# EAGLE library part GENERIC_BOARD_EDGE (library S-100)
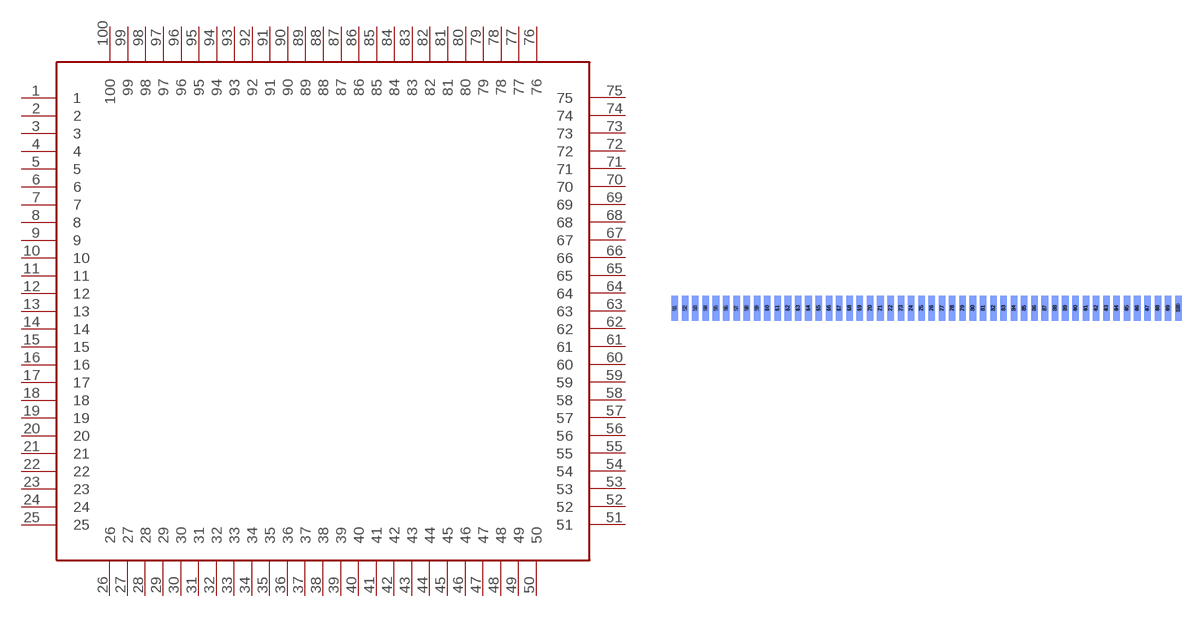
[diagram p0: symbol with the pads of CARD_EDGE; footprint CARD_EDGE]

Designator prefix -

## GENERIC_BOARD_EDGE  [CARD_EDGE]
1  1
2  2
3  3
4  4
5  5
6  6
7  7
8  8
9  9
10  10
11  11
12  12
13  13
14  14
15  15
16  16
17  17
18  18
19  19
20  20
21  21
22  22
23  23
24  24
25  25
26  26
27  27
28  28
29  29
30  30
31  31
32  32
33  33
34  34
35  35
36  36
37  37
38  38
39  39
40  40
41  41
42  42
43  43
44  44
45  45
46  46
47  47
48  48
49  49
50  50
51  51
52  52
53  53
54  54
55  55
56  56
57  57
58  58
59  59
60  60
61  61
62  62
63  63
64  64
65  65
66  66
67  67
68  68
69  69
70  70
71  71
72  72
73  73
74  74
75  75
76  76
77  77
78  78
79  79
80  80
81  81
82  82
83  83
84  84
85  85
86  86
87  87
88  88
89  89
90  90
91  91
92  92
93  93
94  94
95  95
96  96
97  97
98  98
99  99
100  100

## Footprint CARD_EDGE (pad centres in mm)
S-100 card edge
smd 2.032 x 7.62: 1 0,0; 2 3.175,0; 3 6.35,0; 4 9.525,0; 5 12.7,0; 6 15.875,0; 7 19.05,0; 8 22.225,0; 9 25.4,0; 10 28.575,0; 11 31.75,0; 12 34.925,0; 13 38.1,0; 14 41.275,0; 15 44.45,0; 16 47.625,0; 17 50.8,0; 18 53.975,0; 19 57.15,0; 20 60.325,0; 21 63.5,0; 22 66.675,0; 23 69.85,0; 24 73.025,0; 25 76.2,0; 26 79.375,0; 27 82.55,0; 28 85.725,0; 29 88.9,0; 30 92.075,0; 31 95.25,0; 32 98.425,0; 33 101.6,0; 34 104.775,0; 35 107.95,0; 36 111.125,0; 37 114.3,0; 38 117.475,0; 39 120.65,0; 40 123.825,0; 41 127,0; 42 130.175,0; 43 133.35,0; 44 136.525,0; 45 139.7,0; 46 142.875,0; 47 146.05,0; 48 149.225,0; 49 152.4,0; 50 155.575,0
smd 2.032 x 7.62 bottom: 51 0,0; 52 3.175,0; 53 6.35,0; 54 9.525,0; 55 12.7,0; 56 15.875,0; 57 19.05,0; 58 22.225,0; 59 25.4,0; 60 28.575,0; 61 31.75,0; 62 34.925,0; 63 38.1,0; 64 41.275,0; 65 44.45,0; 66 47.625,0; 67 50.8,0; 68 53.975,0; 69 57.15,0; 70 60.325,0; 71 63.5,0; 72 66.675,0; 73 69.85,0; 74 73.025,0; 75 76.2,0; 76 79.375,0; 77 82.55,0; 78 85.725,0; 79 88.9,0; 80 92.075,0; 81 95.25,0; 82 98.425,0; 83 101.6,0; 84 104.775,0; 85 107.95,0; 86 111.125,0; 87 114.3,0; 88 117.475,0; 89 120.65,0; 90 123.825,0; 91 127,0; 92 130.175,0; 93 133.35,0; 94 136.525,0; 95 139.7,0; 96 142.875,0; 97 146.05,0; 98 149.225,0; 99 152.4,0; 100 155.575,0